# Altium footprint library CONN-Barrier-Strip-2Circular-0.438in.PcbLib: 1 footprints
Each footprint in its own frame and in the unit in brackets; x right, y up, seen from the top. Pads: shape width x height; smd on the part's side, far side on the other; paste and mask are expansions set on the pad; w line width, h text height; cw(c..) or ccw(c..) is an arc to the next point about the centre after c.
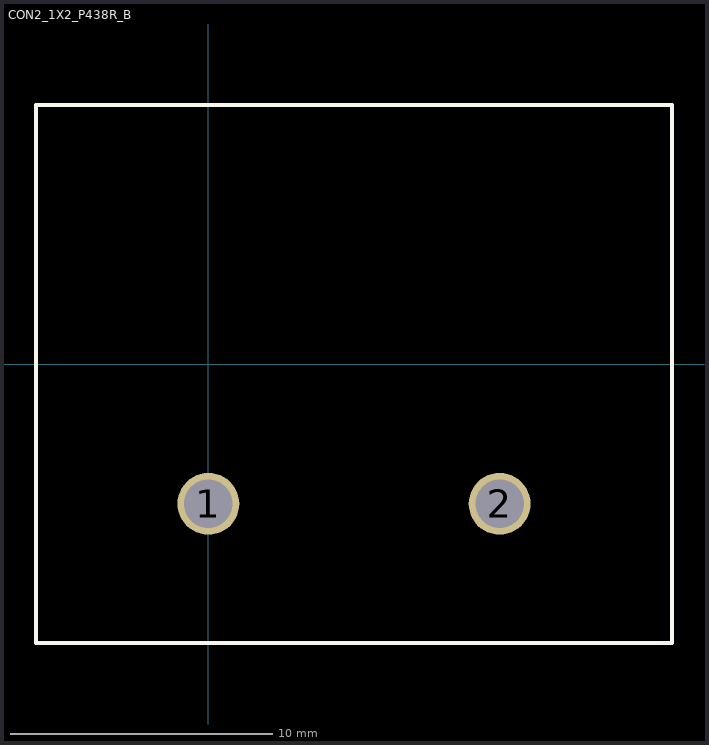
[diagram p0: the footprint, top view; thin cyan lines are the x and y axes]

## CON2_1X2_P438R_B [mil]
pads (2):
  round 93 / inner round 60 / far side round 93 hole 73 paste+0 mask+0: 1(0,-210) 2(438,-210)
Top Overlay:
  lines w6: -259.5,-419.29 -259.5,389.76 697.5,389.76 697.5,-419.29 -259.5,-419.29
3D body "c-5-1437657-7-r-3d.stp": height 770, standoff -185, extent -255.5,-415.35 692.5,384.65